# EAGLE library part NRF9160LTE (library HyTechDevices)
SparkFun Thing Plus - nRF9160 LTE module Datasheet <https://cdn.sparkfun.com/assets/learn_tutorials/1/5/9/7/nRF9160_PS_v1.2.pdf> Sparkfun link <https://www.sparkfun.com/products/17354>
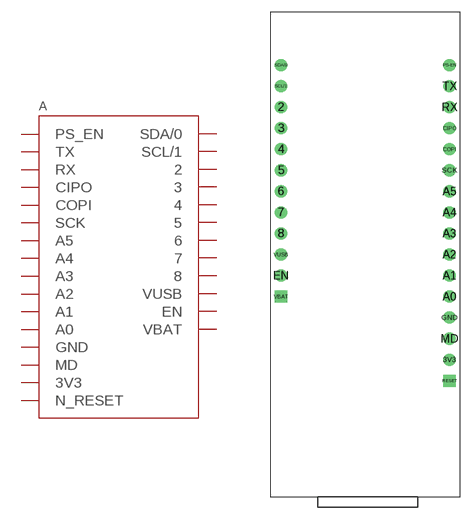
[diagram p58: symbol with the pads of NRF9160LTE; footprint NRF9160LTE]

Designator prefix A

## NRF9160LTE (DKPN: 1568-WRL-17354-ND; MANUFACTURER: SparkFun Electronics; MOPN: 474-WRL-17354; MPN: WRL-17354)  [NRF9160LTE]
2  2
3  3
3V3  3V3  pwr
4  4
5  5
6  6
7  7
8  8
A0  A0
A1  A1
A2  A2
A3  A3
A4  A4
A5  A5
CIPO  CIPO  out
COPI  COPI  in
EN  EN
GND  GND  pwr
MD  MD
PS-EN  PS_EN
RESET  N_RESET
RX  RX
SCK  SCK
SCL/1  SCL/1
SDA/0  SDA/0
TX  TX
VBAT  VBAT  pwr
VUSB  VUSB

## Footprint NRF9160LTE (pad centres in mm)
nRF9160 LTE module Datasheet <https://cdn.sparkfun.com/assets/learn_tutorials/1/5/9/7/nRF9160_PS_v1.2.pdf>
drill 0.95: 2 -10.16,46.99; 3 -10.16,44.45; 3V3 10.16,16.51; 4 -10.16,41.91; 5 -10.16,39.37; 6 -10.16,36.83; 7 -10.16,34.29; 8 -10.16,31.75; A0 10.16,24.13; A1 10.16,26.67; A2 10.16,29.21; A3 10.16,31.75; A4 10.16,34.29; A5 10.16,36.83; CIPO 10.16,44.45; COPI 10.16,41.91; EN -10.16,26.67; GND 10.16,21.59; MD 10.16,19.05; PS-EN 10.16,52.07; RX 10.16,46.99; SCK 10.16,39.37; SCL/1 -10.16,49.53; SDA/0 -10.16,52.07; TX 10.16,49.53; VUSB -10.16,29.21
drill 0.95 square: RESET 10.16,13.97; VBAT -10.16,24.13